# Altium schematic symbol library CRCW04020000Z0ED.SchLib: 1 symbol
Pins are listed as number, name and electrical type; pins without a type are passive.

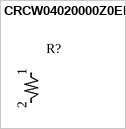
[diagram p0: symbol CRCW04020000Z0ED]

## CRCW04020000Z0ED
designator R?
D10/CRCW0402 0R0 ET7 e3; Manufacturer_Name: Vishay; Manufacturer_Part_Number: CRCW04020000Z0ED
pins: 1, 2